# Altium footprint library SOIC127P650X125-14N.PcbLib: 1 footprints
Each footprint in its own frame and in the unit in brackets; x right, y up, seen from the top. Pads: shape width x height; smd on the part's side, far side on the other; paste and mask are expansions set on the pad; w line width, h text height; cw(c..) or ccw(c..) is an arc to the next point about the centre after c.
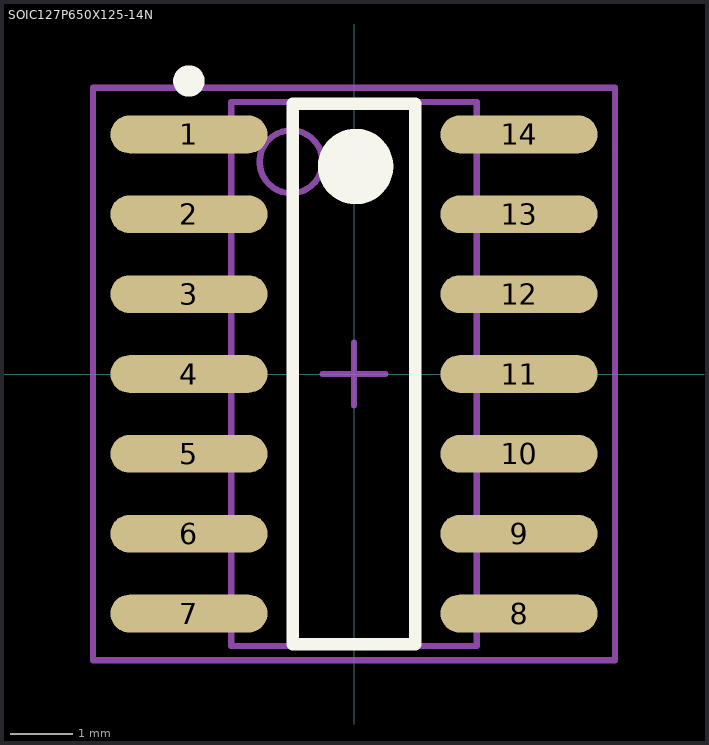
[diagram p0: the footprint, top view; thin cyan lines are the x and y axes]

## SOIC127P650X125-14N [mm] "SOIC, 14-Leads, Body 8.6x3.9mm (max), Pitch 1.27mm, IPC Medium Density"
height 1.25
pads (14):
  oval 2.5x0.6 smd: 1(-2.625,3.81) 2(-2.625,2.54) 3(-2.625,1.27) 4(-2.625,0) 5(-2.625,-1.27) 6(-2.625,-2.54) 7(-2.625,-3.81) 8(2.625,-3.81) 9(2.625,-2.54) 10(2.625,-1.27) 11(2.625,0) 12(2.625,1.27) 13(2.625,2.54) 14(2.625,3.81)
Top Overlay:
  circle w0.25: c-2.625,4.66 r0.125
  circle w0.6: c0.025,3.3 r0.3
  lines w0.2: -0.975,-4.3 -0.975,4.3 0.975,4.3 0.975,-4.3 -0.975,-4.3
Mechanical 13:
  circle w0.1: c-1,3.375 r0.5
  lines w0.1: -1.95,-4.325 -1.95,4.325 1.95,4.325 1.95,-4.325 -1.95,-4.325
Mechanical 15:
  lines w0.1: -0.5,0 0.5,0 ; 0,-0.5 0,0.5 ; -4.15,-4.55 -4.15,4.55 4.15,4.55 4.15,-4.55 -4.15,-4.55
3D body: height 1.25, standoff 0.1, extent -1.95,-4.325 1.95,4.325